# Altium footprint library SMA.PcbLib: 1 footprints
Each footprint in its own frame and in the unit in brackets; x right, y up, seen from the top. Pads: shape width x height; smd on the part's side, far side on the other; paste and mask are expansions set on the pad; w line width, h text height; cw(c..) or ccw(c..) is an arc to the next point about the centre after c.
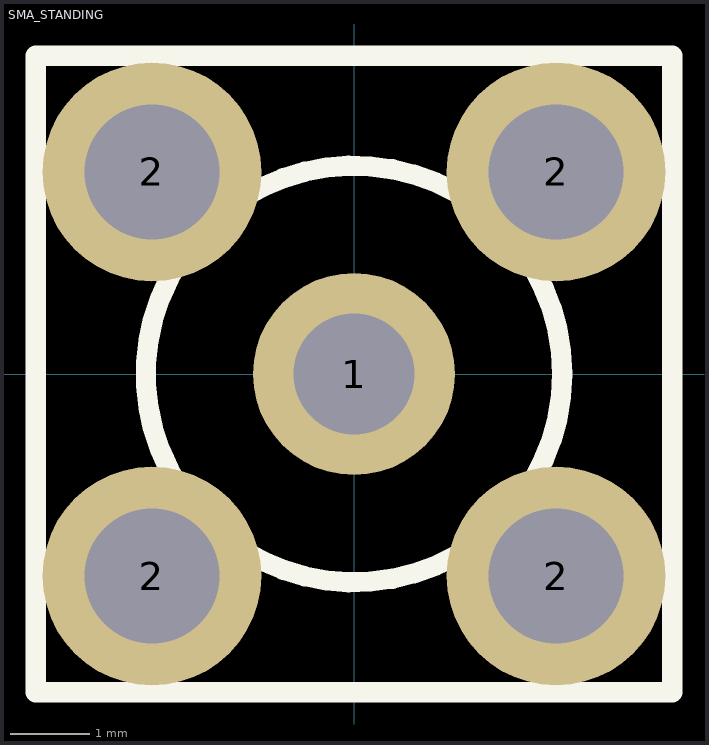
[diagram p0: the footprint, top view; thin cyan lines are the x and y axes]

## SMA_STANDING [mm]
pads (5):
  round 2.54 hole 1.524: 1(0,0)
  round 2.75 hole 1.7: 2(-2.54,-2.54) 2(-2.54,2.54) 2(2.54,-2.54) 2(2.54,2.54)
Top Overlay:
  circle w0.254: c0,0 r2.618
  lines w0.254: -4,-4 -4,4 4,4 4,-4 -4,-4